# Altium integrated library ADXL345.IntLib: 1 symbol
Pins are listed as number, name and electrical type; pins without a type are passive.

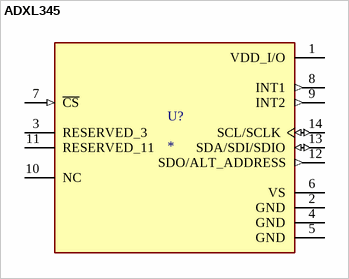
[diagram p0: symbol ADXL345]

## ADXL345
designator U?
Accelerometer X, Y, Z Axis ±2g, 4g, 8g, 16g 0.05Hz ~ 1.6kHz 14-LGA (3x5); MF: Analog Devices, Inc.; MP: ADXL345; SnapEDA_Link: https://www.snapeda.com/parts/ADXL345/Analog+Devices/view-part/?ref=snap; Package: LGA -14 Analog Devices; Value: *; Check_prices: https://www.snapeda.com/parts/ADXL345/Analog+Devices/view-part/?ref=eda
footprint PQFN80P500X300X100-14N
pins: 1 VDD_I/O (power), 2 GND (power), 3 RESERVED_3, 4 GND (power), 5 GND (power), 6 VS (power), 7 ~{CS} (in), 8 INT1 (out), 9 INT2 (out), 10 NC, 11 RESERVED_11, 12 SDO/ALT_ADDRESS (out), 13 SDA/SDI/SDIO (io), 14 SCL/SCLK (io)